# Altium schematic symbol library SCH - POWER - VOLTAGE REFERENCES - TI REF35.SchLib: 1 symbol
Pins are listed as number, name and electrical type; pins without a type are passive.

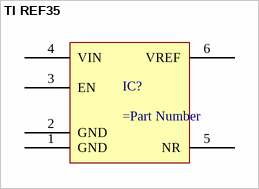
[diagram p0: symbol TI REF35]

## TI REF35
designator IC?
pins: 1 GND, 2 GND, 3 EN, 4 VIN, 5 NR, 6 VREF